# Altium integrated library CPF0805B5R1E1.IntLib: 1 symbol
Pins are listed as number, name and electrical type; pins without a type are passive.

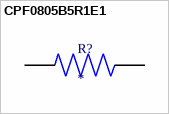
[diagram p0: symbol CPF0805B5R1E1]

## CPF0805B5R1E1
designator R?
5.1 Ohms Â±0.1% 0.1W, 1/10W Chip Resistor 0805 (2012 Metric) Thin Film; MP: CPF0805B5R1E1; Voltage_Rating: 100 V; Resistance: 5.1; MF: TE Connectivity; Tolerance: .1%; Power_Rating: .1 W; Value: *; Availability: Good; Package: 0805; EU_RoHS_Compliance: Compliant; Check_prices: https://www.snapeda.com/parts/CPF0805B5R1E1/TE%20Connectivity/view-part/2531559/?ref=eda; Price: None; SnapEDA_Link: https://www.snapeda.com/parts/CPF0805B5R1E1/TE%20Connectivity/view-part/2531559/?ref=snap; Purchase-URL: https://pricing.snapeda.com/search/part/CPF0805B5R1E1/?ref=eda
footprint RESC2012X65N
pins: 1, 2